# Altium schematic symbol library FPGAlib.SchLib: 12 symbols
Pins are listed as number, name and electrical type; pins without a type are passive.

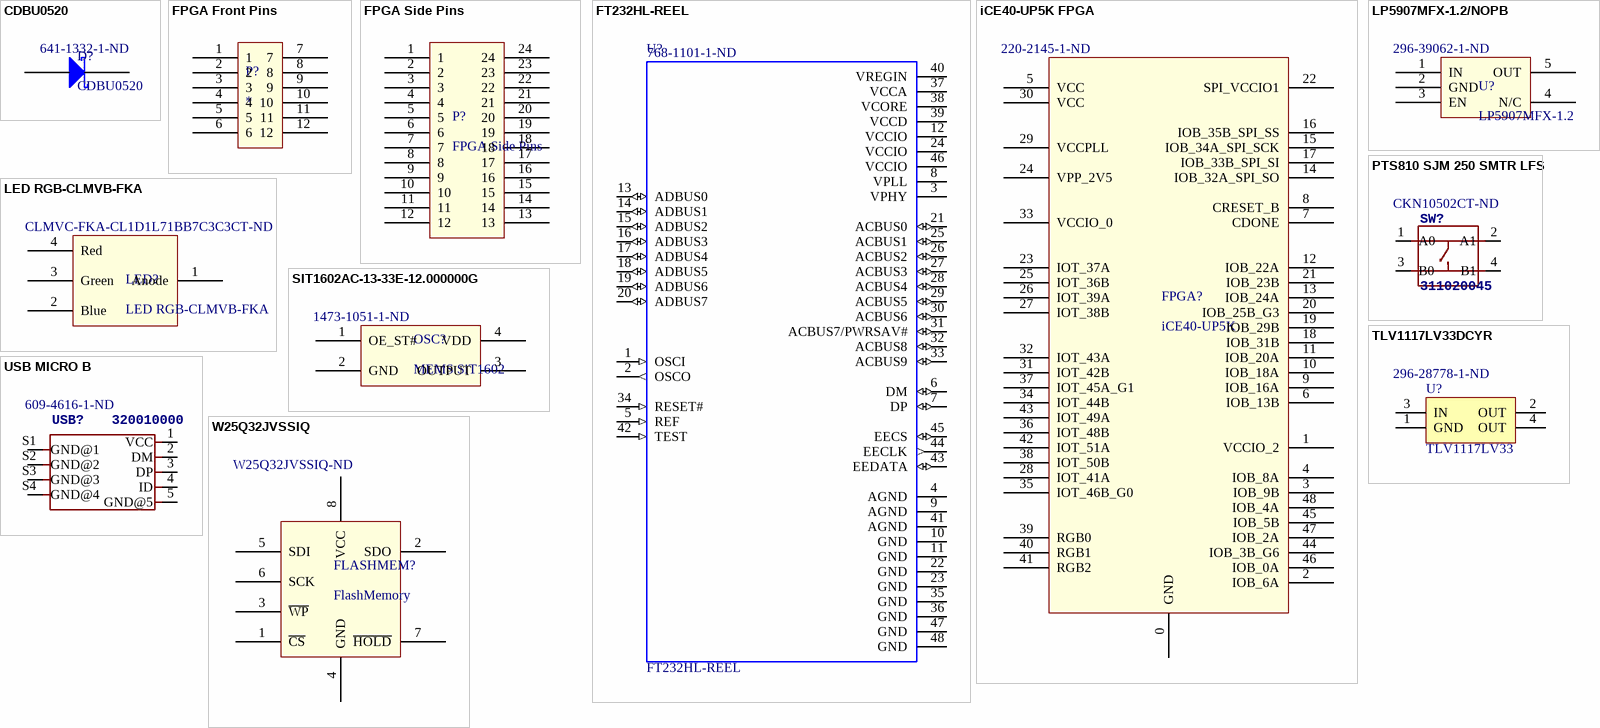
[diagram p0: symbols CDBU0520 to W25Q32JVSSIQ]

## CDBU0520
designator D?  Supplier Part Number 1: 641-1332-1-ND
DIODE SCHOTTKY 20V 500MA 0603; Manufacturer: Comchip Technology; Speed: Fast Recovery =< 500ns, > 200mA (Io); Capacitance @ Vr, F: 100pF @ 0V, 1MHz; Supplier 1: Digi-Key; Manufacturer Part Number: CDBU0520; RoHS: RoHS Compliant; Category: Discrete Semiconductor Products; Stock 1: 262344; Pricing 1: 1=0.47, 10=0.333, 100=0.2186, 500=0.12916, 1000=0.09935 (USD); Packaging: Cut Tape (CT); Part Status: Active; Diode Type: Schottky; Current - Average Rectified (Io): 500mA; Mounting Type: Surface Mount; Package / Case: 2-SMD, No Lead; Supplier Device Package: 0603/SOD-523F; Operating Temperature - Junction: 125°C (Max); Base Part Number: CDBU0520; ComponentLink1URL: http://www.comchiptech.com/admin/files/product/CDBU0520-HF-RevA797161.pdf; ComponentLink1Description: http://www.comchiptech.com/admin/files/product/CDBU0520-HF-RevA797161.pdf
footprint CDBU0520; pin to pad 1>+ 2>-
pins: 1, 2

## FPGA Front Pins
designator P?
footprint FPGA FRONT PINS
pins: 1, 2, 3, 4, 5, 6, 7, 8, 9, 10, 11, 12

## FPGA Side Pins
designator P?
footprint FPGA Side Pins
pins: 1, 2, 3, 4, 5, 6, 7, 8, 9, 10, 11, 12, 13, 14, 15, 16, 17, 18, 19, 20, 21, 22, 23, 24

## FT232HL-REEL
designator U?  Supplier Part Number 1: 768-1101-1-ND
IC HS USB TO UART/FIFO 48LQFP; Manufacturer: FTDI, Future Technology Devices International Ltd; Function: Bridge, USB to UART,FIFO; Interface: UART, FIFO; Standards: USB 2.0; Voltage - Supply: 1.62 V ~ 1.98 V, 2.97 V ~ 3.63 V; Current - Supply: 24mA; Supplier 1: Digi-Key; Manufacturer Part Number: FT232HL-REEL; RoHS: RoHS Compliant; Category: Integrated Circuits (ICs); Stock 1: 26343; Pricing 1: 1=4.25, 10=3.55, 100=3.1, 250=2.95, 500=2.85002 (USD); Packaging: Cut Tape (CT); Part Status: Active; Protocol: USB; Operating Temperature: -40°C ~ 85°C; Package / Case: 48-LQFP; Supplier Device Package: 48-LQFP (7x7); ComponentLink1URL: http://www.ftdichip.com/Support/Documents/DataSheets/ICs/DS_FT232H.pdf; ComponentLink1Description: http://www.ftdichip.com/Support/Documents/DataSheets/ICs/DS_FT232H.pdf
footprint QFP50P900X900X160-48N
pins: 1 OSCI (in), 2 OSCO (out), 3 VPHY (power), 4 AGND (power), 5 REF (in), 6 DM (io), 7 DP (io), 8 VPLL (power), 9 AGND (power), 10 GND (power), 11 GND (power), 12 VCCIO (power), 13 ADBUS0 (io), 14 ADBUS1 (io), 15 ADBUS2 (io), 16 ADBUS3 (io), 17 ADBUS4 (io), 18 ADBUS5 (io), 19 ADBUS6 (io), 20 ADBUS7 (io), 21 ACBUS0 (io), 22 GND (power), 23 GND (power), 24 VCCIO (power), 25 ACBUS1 (io), 26 ACBUS2 (io), 27 ACBUS3 (io), 28 ACBUS4 (io), 29 ACBUS5 (io), 30 ACBUS6 (io), 31 ACBUS7/PWRSAV# (io), 32 ACBUS8 (io), 33 ACBUS9 (io), 34 RESET# (in), 35 GND (power), 36 GND (power), 37 VCCA (power), 38 VCORE (power), 39 VCCD (power), 40 VREGIN (power), 41 AGND (power), 42 TEST (in), 43 EEDATA (io), 44 EECLK (out), 45 EECS (io), 46 VCCIO (power), 47 GND (power), 48 GND (power)

## iCE40-UP5K FPGA
designator FPGA?, comment iCE40-UP5K  Supplier Part Number 1: 220-2145-1-ND
iCE40-UP5K FPGA; Manufacturer: Lattice Semiconductor Corporation; Manufacturer Part Number: ICE40UP5K-SG48ITR50; Voltage - Supply: 1.14 V ~ 1.26 V; Supplier 1: Digi-Key; RoHS: RoHS Compliant; Category: Integrated Circuits (ICs); Stock 1: 514; Pricing 1: 1=6.06 (USD); Part Status: Discontinued at Digi-Key; Mounting Type: Surface Mount; Operating Temperature: -40°C ~ 100°C (TJ); Package / Case: 48-VFQFN Exposed Pad; Supplier Device Package: 48-QFN (7x7); ComponentLink1URL: http://www.latticesemi.com/view_document?document_id=51968; ComponentLink1Description: http://www.latticesemi.com/view_document?document_id=51968
footprint SLAB-QFN48-7X7-MD (QFN, 48-Leads, Body 7.00x7.00mm, Pitch 0.50mm, Thermal Pad 4.70x4.70mm, IPC Medium Density)
pins: 0 GND, 1 VCCIO_2, 2 IOB_6A, 3 IOB_9B, 4 IOB_8A, 5 VCC, 6 IOB_13B, 7 CDONE, 8 CRESET_B, 9 IOB_16A, 10 IOB_18A, 11 IOB_20A, 12 IOB_22A, 13 IOB_24A, 14 IOB_32A_SPI_SO, 15 IOB_34A_SPI_SCK, 16 IOB_35B_SPI_SS, 17 IOB_33B_SPI_SI, 18 IOB_31B, 19 IOB_29B, 20 IOB_25B_G3, 21 IOB_23B, 22 SPI_VCCIO1, 23 IOT_37A, 24 VPP_2V5, 25 IOT_36B, 26 IOT_39A, 27 IOT_38B, 28 IOT_41A, 29 VCCPLL, 30 VCC, 31 IOT_42B, 32 IOT_43A, 33 VCCIO_0, 34 IOT_44B, 35 IOT_46B_G0, 36 IOT_48B, 37 IOT_45A_G1, 38 IOT_50B, 39 RGB0, 40 RGB1, 41 RGB2, 42 IOT_51A, 43 IOT_49A, 44 IOB_3B_G6, 45 IOB_5B, 46 IOB_0A, 47 IOB_2A, 48 IOB_4A

## LED RGB-CLMVB-FKA
designator LED?  Supplier Part Number 1: CLMVC-FKA-CL1D1L71BB7C3C3CT-ND
LED RGB CLEAR 4PLCC SMD; Manufacturer: Cree Inc.; Manufacturer Part Number: CLMVC-FKA-CL1D1L71BB7C3C3; Color: Red, Green, Blue (RGB); Configuration: Common Anode; Lens Color: Colorless; Millicandela Rating: 337mcd Red, 420mcd Green, 84mcd Blue; Lens Style: Square with Flat Top; Voltage - Forward (Vf) (Typ): 2V Red, 3V Green, 3V Blue; Current - Test: 20mA Red, 10mA Green, 10mA Blue; Wavelength - Dominant: 622nm Red, 530nm Green, 470nm Blue; Supplier 1: Digi-Key; RoHS: RoHS Compliant; Category: Optoelectronics; Stock 1: 3423; Pricing 1: 1=0.19, 10=0.178, 100=0.165, 1000=0.14746 (USD); Packaging: Cut Tape (CT); Part Status: Active; Lens Transparency: Clear; Lens Size: -; Viewing Angle: -; Mounting Type: Surface Mount; Wavelength - Peak: -; Features: -; Package / Case: 4-SMD, J-Lead; Supplier Device Package: 4-PLCC; Size / Dimension: 2.00mm L x 2.00mm W; Height (Max): 1.00mm; ComponentLink1URL: https://www.cree.com/led-components/media/documents/1273-CLMVC-FKA.pdf; ComponentLink1Description: https://www.cree.com/led-components/media/documents/1273-CLMVC-FKA.pdf
footprint ledRGB
pins: 1 Anode, 2 Blue, 3 Green, 4 Red

## LP5907MFX-1.2/NOPB
designator U?, comment LP5907MFX-1.2  Supplier Part Number 1: 296-39062-1-ND
IC REG LINEAR 1.2V 250MA SOT23-5; Manufacturer: Texas Instruments; Manufacturer Part Number: LP5907MFX-1.2/NOPB; Output Configuration: Positive; Output Type: Fixed; Voltage - Input (Max): 5.5V; Voltage Dropout (Max): 0.25V @ 250mA; PSRR: 90dB ~ 60dB (100Hz ~ 100kHz); Control Features: Enable; Protection Features: Over Temperature, Short Circuit; Supplier 1: Digi-Key; RoHS: RoHS Compliant; Category: Integrated Circuits (ICs); Stock 1: 65117; Pricing 1: 1=0.55, 10=0.475, 100=0.3547, 500=0.27872, 1000=0.21537 (USD); Packaging: Cut Tape (CT); Part Status: Active; Voltage - Output (Min/Fixed): 1.2V; Voltage - Output (Max): -; Current - Output: 250mA; Operating Temperature: -40°C ~ 125°C; Mounting Type: Surface Mount; Package / Case: SC-74A, SOT-753; Supplier Device Package: SOT-23-5; ComponentLink1URL: http://www.ti.com/lit/ds/symlink/lp5907.pdf; ComponentLink1Description: http://www.ti.com/lit/ds/symlink/lp5907.pdf
footprint 1-2Regulator
footprint 1-2Regulator
pins: 1 IN, 2 GND, 3 EN, 4 N/C, 5 OUT

## PTS810 SJM 250 SMTR LFS
designator SW?, comment 311020045  Supplier Part Number 1: CKN10502CT-ND
SWITCH TACTILE SPST-NO 0.05A 16V; MPN: DHT-4235A; Manufacturer: C&K; Manufacturer Part Number: KXT 331 LHS; Switch Function: Off-Mom; Contact Rating @ Voltage: 0.02A @ 15VDC; Actuator Type: Standard; Actuator Height off PCB, Vertical: 0.60mm; Actuator Orientation: Top Actuated; Outline: 3.00mm x 2.00mm; Illumination: Non-Illuminated; Operating Force: 240gf; Switch Travel: 0.13mm; Mechanical Life: 500,000 Cycles; RoHS: RoHS Compliant; Category: Switches; Packaging: Cut Tape (CT); Part Status: Active; Circuit: SPST-NO; Mounting Type: Surface Mount; Actuator Length, Right Angle: -; Termination Style: SMD (SMT) Tab; Illumination Type, Color: -; Illumination Voltage (Nominal): -; Ingress Protection: -; Features: -; Operating Temperature: -40°C ~ 85°C; Actuator Material: -; ComponentLink1URL: https://www.ckswitches.com/media/1465/kxt3.pdf; ComponentLink1Description: https://www.ckswitches.com/media/1465/kxt3.pdf; Supplier 1: Digi-Key; Stock 1: 220949; Pricing 1: 1=0.3, 10=0.287, 25=0.2768, 50=0.267, 100=0.2521, 250=0.23728, 500=0.2274, 1000=0.17302 (USD); ComponentLink2URL: https://www.ckswitches.com/media/1476/pts810.pdf; ComponentLink2Description: https://www.ckswitches.com/media/1476/pts810.pdf
footprint SW4-SMD-4.2X3.2X2.5MM
pins: 1 A0, 2 A1, 3 B0, 4 B1

## SIT1602AC-13-33E-12.000000G
designator OSC?, comment MEMS SiT1602  Supplier Part Number 1: 1473-1051-1-ND
MEMS OSC XO 12.0000MHZ LVCMOS; Manufacturer: SiTIME; Manufacturer Part Number: SIT1602AC-13-33E-12.000000G; Function: Enable/Disable; Voltage - Supply: 3.3V; Frequency Stability: ±50ppm; Current - Supply (Max): 4.5mA; Current - Supply (Disable) (Max): 4mA; RoHS: RoHS Compliant; Category: Crystals, Oscillators, Resonators; Packaging: Cut Tape (CT); Part Status: Not For New Designs; Base Resonator: MEMS; Type: XO (Standard); Output: LVCMOS; Operating Temperature: -20°C ~ 70°C; Ratings: -; Mounting Type: Surface Mount; Package / Case: 4-SMD, No Lead; Size / Dimension: 0.098" L x 0.079" W (2.50mm x 2.00mm); Height - Seated (Max): 0.032" (0.80mm); ComponentLink1URL: https://media.digikey.com/pdf/Data%20Sheets/SiTime%20PDFs/SIT1602A.pdf; ComponentLink1Description: https://media.digikey.com/pdf/Data%20Sheets/SiTime%20PDFs/SIT1602A.pdf; Supplier 1: Digi-Key; Pricing 1: 1=1.26, 10=1.118, 50=1.045, 100=0.9236 (USD)
footprint oscMEMS1602
pins: 1 OE_ST#, 2 GND, 3 OUTPUT, 4 VDD

## TLV1117LV33DCYR
designator U?, comment TLV1117LV33  Supplier Part Number 1: 296-28778-1-ND
IC REG LINEAR 3.3V 1A SOT223-4; Manufacturer: Texas Instruments; Manufacturer Part Number: TLV1117LV33DCYR; Output Configuration: Positive; Output Type: Fixed; Voltage - Input (Max): 5.5V; Voltage Dropout (Max): 1.3V @ 800mA; PSRR: 75dB (120Hz); Protection Features: Over Current, Over Temperature; Supplier 1: Digi-Key; RoHS: RoHS Compliant; Category: Integrated Circuits (ICs); Stock 1: 20855; Pricing 1: 1=0.68, 10=0.598, 100=0.4586, 500=0.36256, 1000=0.29005 (USD); Packaging: Cut Tape (CT); Part Status: Active; Voltage - Output (Min/Fixed): 3.3V; Voltage - Output (Max): -; Current - Output: 1A; Control Features: -; Operating Temperature: -40°C ~ 125°C; Mounting Type: Surface Mount; Package / Case: TO-261-4, TO-261AA; Supplier Device Package: SOT-223-4; Base Part Number: TLV1117LV33; ComponentLink1URL: http://www.ti.com/lit/ds/symlink/tlv1117lv.pdf; ComponentLink1Description: http://www.ti.com/lit/ds/symlink/tlv1117lv.pdf
footprint ZZ311 (SOT-223/SC-73; 4 Leads; Body 6.7 x 7.3 mm, inc. leads (LxW max))
pins: 1 GND (power), 2 OUT (power), 3 IN (power), 4 OUT (power)

## USB MICRO B
designator USB?, comment 320010000  Supplier Part Number 1: 609-4616-1-ND
CONN USB MICRO B RECPT SMT R/A; Manufacturer: Amphenol FCI; Manufacturer Part Number: 10118193-0001LF; Connector Type: USB - micro B; Number of Contacts: 5; Gender: Receptacle; Specifications: USB 2.0; Current Rating: 1.8A per Contact; Voltage - Rated: 100VAC; Mating Cycles: 10000; Shielding: Shielded; Material Flammability Rating: UL94 V-0; Supplier 1: Digi-Key; RoHS: RoHS Compliant; Category: Connectors, Interconnects; Stock 1: 275888; Pricing 1: 1=0.45, 10=0.419, 25=0.38, 50=0.3406, 100=0.3275, 250=0.30132, 500=0.28822 (USD); Packaging: Cut Tape (CT); Part Status: Active; Mounting Type: Surface Mount, Right Angle; Through Hole; Mounting Feature: Horizontal; Termination: Solder; Features: Solder Retention; Ingress Protection: -; Operating Temperature: -30°C ~ 80°C; Contact Finish: Gold; Shell/Shielding Material: Steel, Stainless; Insulation Color: Black; ComponentLink1URL: http://www.amphenol-icc.com/media/wysiwyg/files/drawing/10118193.pdf; ComponentLink1Description: http://www.amphenol-icc.com/media/wysiwyg/files/drawing/10118193.pdf
footprint MICRO-USB5+4P-SMD-0.65-B
pins: 1 VCC, 2 DM, 3 DP, 4 ID, 5 GND@5, S1 GND@1, S2 GND@2, S3 GND@3, S4 GND@4

## W25Q32JVSSIQ
designator FLASHMEM?, comment FlashMemory  Supplier Part Number 1: W25Q32JVSSIQ-ND
IC FLASH 32M SPI 133MHZ 8SOIC; Manufacturer: Winbond Electronics; Manufacturer Part Number: W25Q32JVSSIQ; Memory Type: Non-Volatile; Memory Size: 32Mb (4M x 8); Write Cycle Time - Word, Page: 3ms; Memory Interface: SPI - Quad I/O; Voltage - Supply: 2.7 V ~ 3.6 V; Supplier 1: Digi-Key; RoHS: RoHS Compliant; Category: Integrated Circuits (ICs); Stock 1: 41181; Pricing 1: 1=0.81, 10=0.74, 25=0.7308, 90=0.72667, 180=0.64972, 270=0.64411, 540=0.63474, 810=0.62498, 1080=0.61183 (USD); Packaging: Tube; Part Status: Active; Memory Format: FLASH; Technology: FLASH - NOR; Operating Temperature: -40°C ~ 85°C (TA); Mounting Type: Surface Mount; Package / Case: 8-SOIC (0.209", 5.30mm Width); Supplier Device Package: 8-SOIC; ComponentLink1URL: http://www.winbond.com/resource-files/w25q32jv%20revg%2003272018%20plus.pdf; ComponentLink1Description: http://www.winbond.com/resource-files/w25q32jv%20revg%2003272018%20plus.pdf
footprint SOP8FlashCorrect
pins: 1 ~{CS}, 2 SDO, 3 ~{WP}, 4 GND, 5 SDI, 6 SCK, 7 ~{HOLD}, 8 VCC